# EAGLE library part L293DD (library IC)
IC MTR DRV BIPOLR 4.5-36V 20SOIC Manufacturer's datasheet <https://www.st.com/content/ccc/resource/technical/document/datasheet/04/ac/22/f9/20/5d/43/a1/CD00000059.pdf/files/CD00000059.pdf/jcr:content/translations/en.CD00000059.pdf>
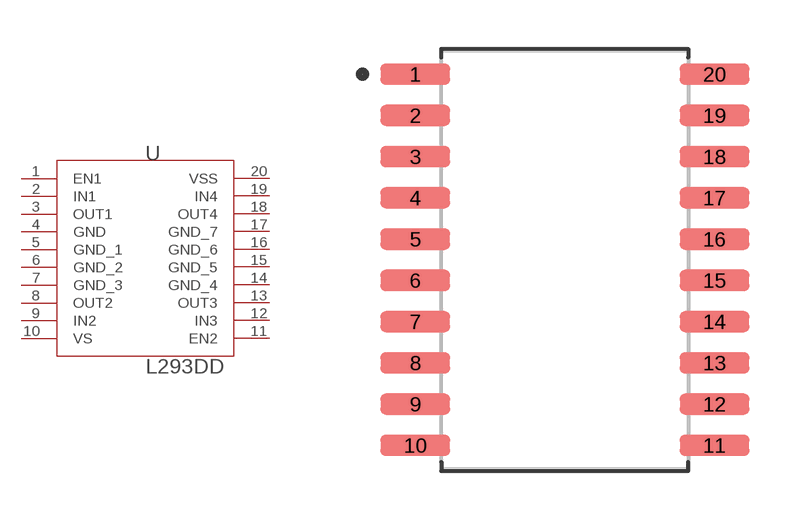
[diagram p41: symbol with the pads of SOIC-20; footprint SOIC-20]

Designator prefix U

## L293DD (CREATED_BY: PCBLayout.com; DIGI-KEY-PART: 497-1390-5-ND; MANUFACTURER: STMicroelectronics; MPN: L293DD; PACKAGE: 20-SOIC)  [SOIC-20]
1  EN1  in
2  IN1  in
3  OUT1  out
4  GND  pwr
5  GND_1  pwr
6  GND_2  pwr
7  GND_3  pwr
8  OUT2  out
9  IN2  in
10  VS  pwr
11  EN2  in
12  IN3  in
13  OUT3  out
14  GND_4  pwr
15  GND_5  pwr
16  GND_6  pwr
17  GND_7  pwr
18  OUT4  out
19  IN4  in
20  VSS  pwr

## Footprint SOIC-20 (pad centres in mm)
Small Outline IC (SOIC), 1.27 mm pitch; 20 pin, 12.80 mm L X 7.50 mm W X 2.65 mm H body PCB Libraries Packages
smd 2.15 x 0.66: 1 -4.605,5.715; 2 -4.605,4.445; 3 -4.605,3.175; 4 -4.605,1.905; 5 -4.605,0.635; 6 -4.605,-0.635; 7 -4.605,-1.905; 8 -4.605,-3.175; 9 -4.605,-4.445; 10 -4.605,-5.715; 11 4.605,-5.715; 12 4.605,-4.445; 13 4.605,-3.175; 14 4.605,-1.905; 15 4.605,-0.635; 16 4.605,0.635; 17 4.605,1.905; 18 4.605,3.175; 19 4.605,4.445; 20 4.605,5.715